# Altium schematic symbol library ZLDO1117K33TC.Schlib: 1 symbol
Pins are listed as number, name and electrical type; pins without a type are passive.

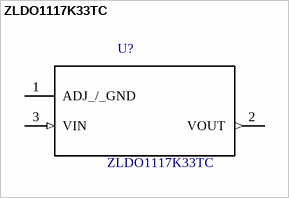
[diagram p0: symbol ZLDO1117K33TC]

## ZLDO1117K33TC
designator U?
Linear Voltage Regulator IC Positive Fixed 1 Output  1A TO-252-3
pins: 1 ADJ_/_GND (power), 2 VOUT (out), 3 VIN (in)